# Altium footprint library TO-277.PcbLib: 1 footprints
Each footprint in its own frame and in the unit in brackets; x right, y up, seen from the top. Pads: shape width x height; smd on the part's side, far side on the other; paste and mask are expansions set on the pad; w line width, h text height; cw(c..) or ccw(c..) is an arc to the next point about the centre after c.
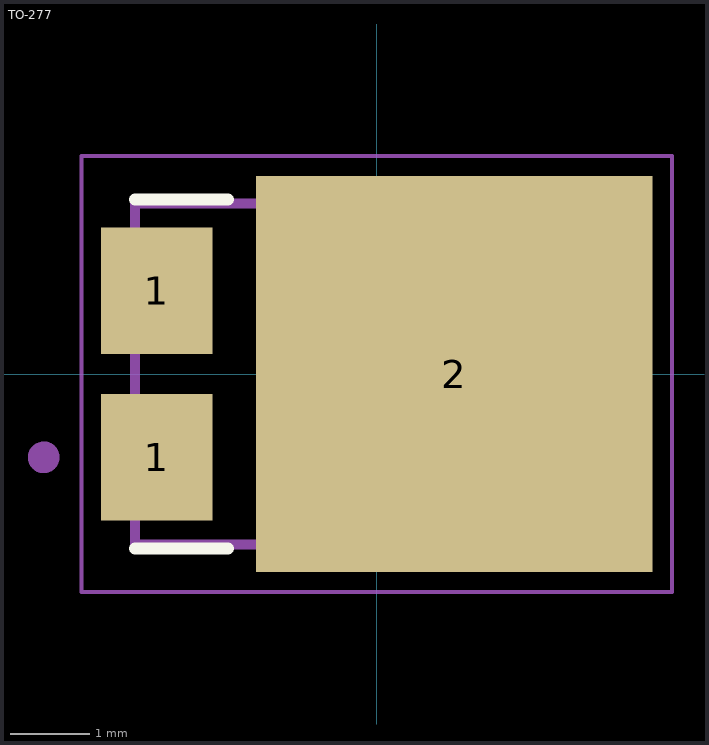
[diagram p0: the footprint, top view; thin cyan lines are the x and y axes]

## TO-277 [mm]
pads (3):
  rect 1.4x1.6 smd: 1(-2.775,-1.05) 1(-2.775,1.05)
  rect 5x5 smd paste-3: 2(0.975,0)
Top Overlay:
  lines w0.15: -3.05,-2.2 -1.875,-2.2 ; -3.05,2.2 -1.875,2.2
Top Paste:
  region: 0.515,0.46 -1.065,0.46 -1.065,2.04 0.515,2.04
  region: 0.515,-2.04 -1.065,-2.04 -1.065,-0.46 0.515,-0.46
  region: 3.015,0.46 1.435,0.46 1.435,2.04 3.015,2.04
  region: 3.015,-2.04 1.435,-2.04 1.435,-0.46 3.015,-0.46
Mechanical 13:
  circle w0.2: c-4.2,-1.05 r0.1
  lines w0.127: -3.05,-2.15 3.05,-2.15 3.05,2.15 -3.05,2.15 -3.05,-2.15
Mechanical 15:
  lines w0.05: -3.725,-2.75 3.725,-2.75 3.725,2.75 -3.725,2.75 -3.725,-2.75
3D body "step_temp.STEP": height 1.2, standoff 0, extent -3.25,-2.3 3.25,2.3